# Altium integrated library Oscillators.IntLib: 1 symbol
Pins are listed as number, name and electrical type; pins without a type are passive.

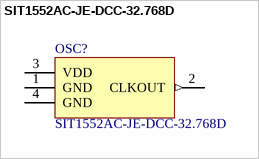
[diagram p0: symbol SIT1552AC-JE-DCC-32.768D]

## SIT1552AC-JE-DCC-32.768D
designator OSC?
MEMS OSC TCXO 32.7680KHZ LVCMOS; Manufacturer 1: SiTime; Frequency: 32.768kHz; Frequency Stability: 5ppm; Supplier 1: Digi-Key; Manufacturer Part Number 1: SIT1552AC-JE-DCC-32.768D; Stock 1: 4271; Pricing 1: 1=1,88000, 10=1,79700, 50=1,75560, 100=1,50480, 500=1,46300, 1000=1,23310 (USD); RoHS: Yes; Mount: Surface Mount; Min Operating Temperature: 0°C; Max Operating Temperature: 70°C; Packaging: Tape and Reel; Length: 0.061inch; Height: 0.024inch; Width: 0.033inch; ComponentLink1URL: https://www.sitime.com/products/datasheets/sit1552/SiT1552-datasheet.pdf?src-supplier=Digi-Key; ComponentLink1Description: https://www.sitime.com/products/datasheets/sit1552/SiT1552-datasheet.pdf?src-supplier=Digi-Key; ComponentLink2URL: https://www.sitime.com/datasheet/SiT1552?src-supplier=Digi-Key; ComponentLink2Description: https://www.sitime.com/datasheet/SiT1552?src-supplier=Digi-Key; Value: SIT1552AC-JE-DCC-32.768D; Supplier Part Number 1: 1473-1241-1-ND
footprint BGA4C100X41P2X2_154X84X60N
pins: 1 GND, 2 CLKOUT (out), 3 VDD, 4 GND